# EAGLE library part STC8H8K64U_45I_TQFP_48_KXN (library kxn_Standard_MCU)
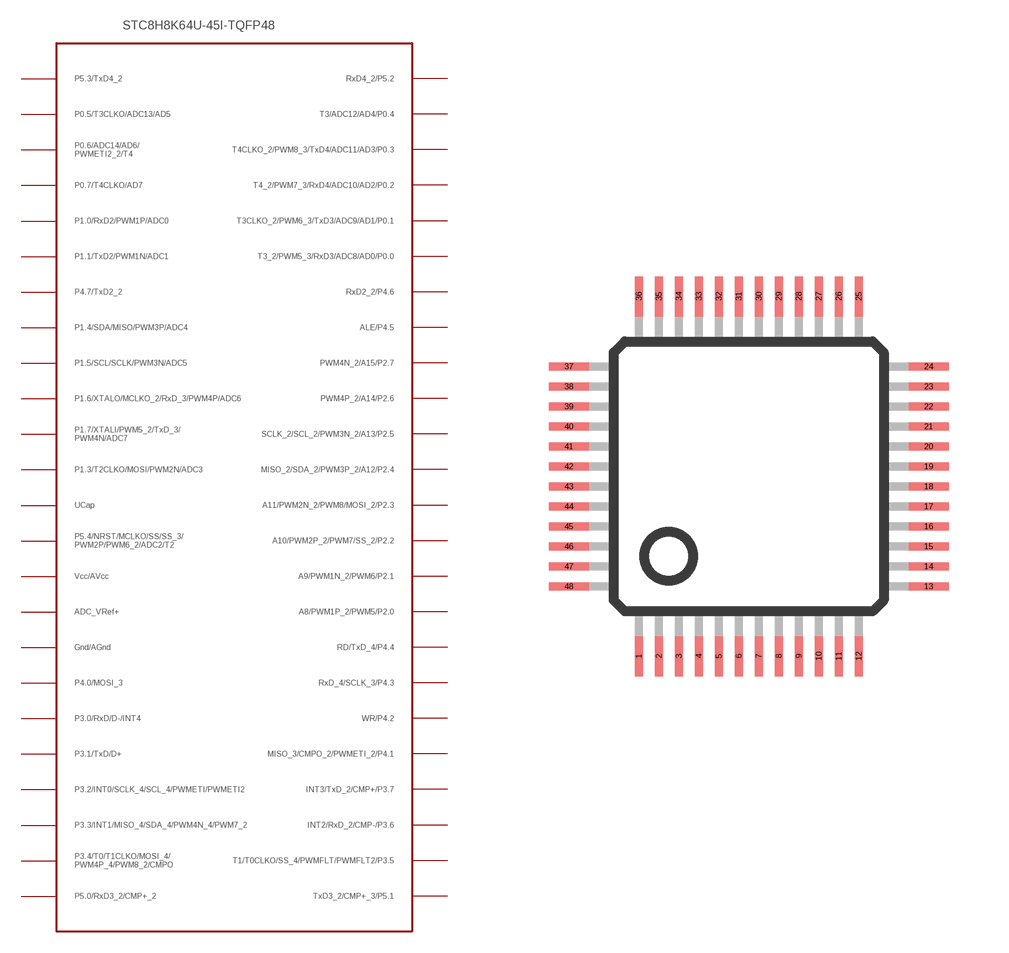
[diagram p11: symbol with the pads of TQFP48; footprint TQFP48]

Designator prefix -

## STC8H8K64U_45I_TQFP_48_KXN  [TQFP48]
1  P$1_P5.3
2  P$2_P0.5
3  P$3_0.6
4  P$4_0.7
5  P$5_1.0
6  P$6_1.1
7  P$7_4.7
8  P$8_1.4
9  P$9_1.5
10  P$10_1.6
11  P$11_1.7
12  P$12_1.3
13  P$13_UCAP
14  P$14_5.4
15  P$15_VCC/AVCC  pwr
16  P$16_ADC_VREF+  pwr
17  P$17_GND/AGND  sup
18  P$18_4.0
19  P$19_3.0
20  P$20_3.1
21  P$21_3.2
22  P$22_3.3
23  P$23_3.4
24  P$24_5.0
25  P$25_5.1
26  P$26_3.5
27  P$27_3.6
28  P$28_3.7
29  P$29_4.1
30  P$30_4.2
31  P$31_4.3
32  P$32_4.4
33  P$33_2.0
34  P$34_2.1
35  P$35_2.2
36  P$36_2.3
37  P$37_2.4
38  P$38_2.5
39  P$39_2.6
40  P$40_2.7
41  P$41_4.5
42  P$42_4.6
43  P$43_0.0
44  P$44_0.1
45  P$45_0.2
46  P$46_0.3
47  P$47_0.4
48  P$48_5.2

## Footprint TQFP48 (pad centres in mm)
smd 0.2 x 1: 1 -2.75,-4.5; 2 -2.25,-4.5; 3 -1.75,-4.5; 4 -1.25,-4.5; 5 -0.75,-4.5; 6 -0.25,-4.5; 7 0.25,-4.5; 8 0.75,-4.5; 9 1.25,-4.5; 10 1.75,-4.5; 11 2.25,-4.5; 12 2.75,-4.5; 25 2.75,4.5; 26 2.25,4.5; 27 1.75,4.5; 28 1.25,4.5; 29 0.75,4.5; 30 0.25,4.5; 31 -0.25,4.5; 32 -0.75,4.5; 33 -1.25,4.5; 34 -1.75,4.5; 35 -2.25,4.5; 36 -2.75,4.5
smd 1 x 0.2: 13 4.5,-2.75; 14 4.5,-2.25; 15 4.5,-1.75; 16 4.5,-1.25; 17 4.5,-0.75; 18 4.5,-0.25; 19 4.5,0.25; 20 4.5,0.75; 21 4.5,1.25; 22 4.5,1.75; 23 4.5,2.25; 24 4.5,2.75; 37 -4.5,2.75; 38 -4.5,2.25; 39 -4.5,1.75; 40 -4.5,1.25; 41 -4.5,0.75; 42 -4.5,0.25; 43 -4.5,-0.25; 44 -4.5,-0.75; 45 -4.5,-1.25; 46 -4.5,-1.75; 47 -4.5,-2.25; 48 -4.5,-2.75